# Altium footprint library Train2.PCBLIB: 223 footprints (part 9 of 14)
Each footprint in its own frame and in the unit in brackets; x right, y up, seen from the top. Pads: shape width x height; smd on the part's side, far side on the other; paste and mask are expansions set on the pad; w line width, h text height; cw(c..) or ccw(c..) is an arc to the next point about the centre after c.
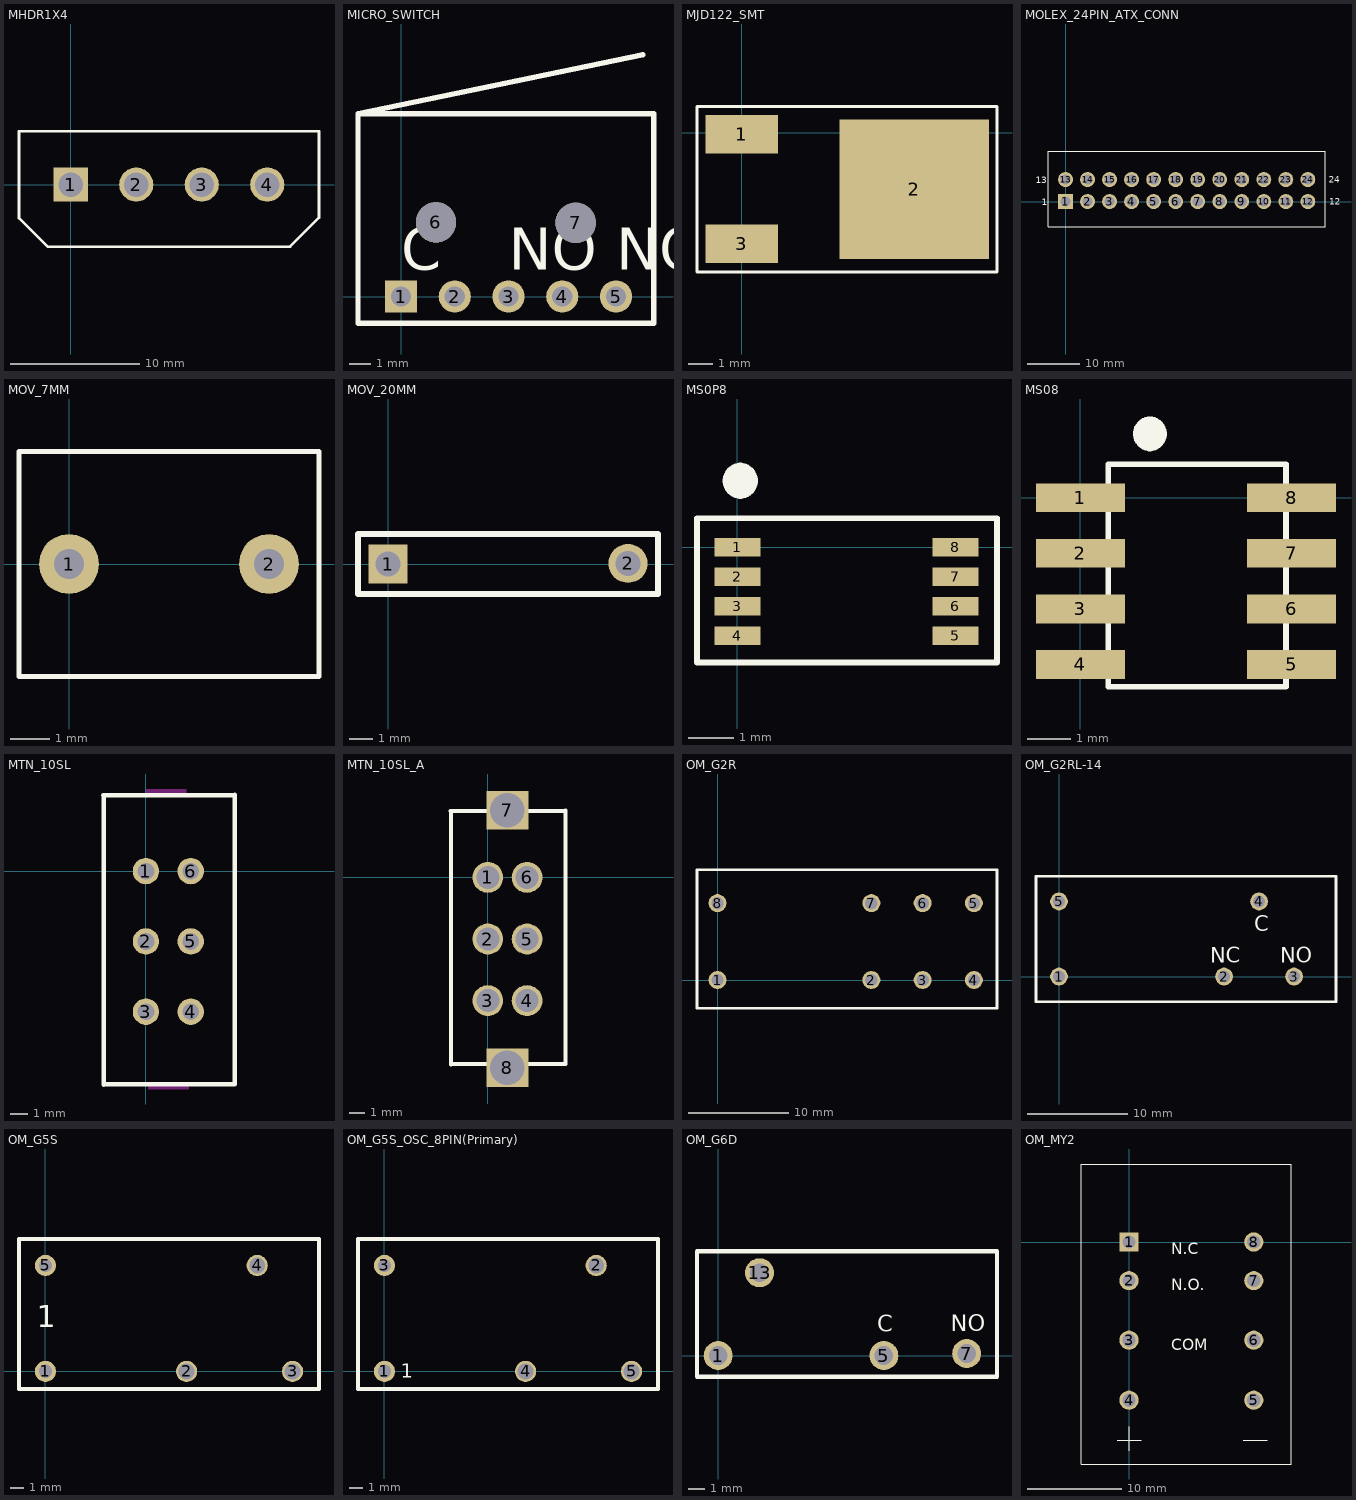
[diagram p8: the footprints below, top view; thin cyan lines are the x and y axes]

## MHDR1X4 [mm] "Connector; Header; 4 Position"
pads (4):
  rect 2.65x2.65 hole 1.9: 1(0,0)
  round 2.65 hole 1.9: 2(5.08,0) 3(10.16,0) 4(15.24,0)
Top Overlay:
  lines w0.2: -4.013,-2.601 -4.013,4.14 19.253,4.14 19.253,-2.565 ; -4.005,-2.599 -1.778,-4.826 17.017,-4.826 ; 17.017,-4.792 19.244,-2.565
3D body "SW3dPS-Molex disk drive power connector.STEP": height 12.19, standoff 0, extent -4,-4.89 19.368,4

## MICRO_SWITCH [mil]
pads (7):
  rect 60x60 hole 38: 1(0,0)
  round 60 hole 38: 2(100,0) 3(200,0) 4(300,0) 5(400,0)
  round 75 hole 75 unplated: 6(65,138) 7(325,137)
Top Overlay:
  lines w10: 450,450 -80,340 ; -80,340 470,340 470,-50 -80,-50 -80,340
  text "C" at 0,50 h78.12
  text "NC" at 400,50 h78.12
  text "NO" at 200,50 h78.12

## MJD122_SMT [mil]
pads (3):
  rect 118x63 smd: 1(0,-2) 3(0,-181)
  rect 244x228 smd: 2(282,-92)
Top Overlay:
  lines w5: -73,-227 -73,43 417,43 417,-227 -73,-227

## MOLEX_24PIN_ATX_CONN [mm] "Connector; Header; 12x2 Position"
pads (24):
  rect 2.85x2.85 hole 1.95: 1(0,0)
  round 2.85 hole 1.95: 2(4.2,0) 3(8.4,0) 4(12.6,0) 5(16.8,0) 6(21,0) 7(25.2,0) 8(29.4,0) 9(33.6,0) 10(37.8,0) 11(42,0) 12(46.2,0) 13(0,4.2) 14(4.2,4.2) 15(8.4,4.2) 16(12.6,4.2) 17(16.8,4.2) 18(21,4.2) 19(25.2,4.2) 20(29.4,4.2) 21(33.6,4.2) 22(37.8,4.2) 23(42,4.2) 24(46.2,4.2)
Top Overlay:
  lines w0.2: -3.3,-4.8 -3.3,9.6 49.504,9.6 49.496,-4.8 -3.3,-4.8
  text "1" at -4.502,-0.726 h1.27
  text "13" at -5.64,3.494 h1.27
  text "12" at 50.3,-0.563 h1.27
  text "24" at 50.22,3.555 h1.27
3D body "4646.stp": height 12.8, standoff -3.5, extent -3.1,-3 49.3,8

## MOV_7MM [mil]
pads (2):
  round 60 hole 30: 1(0,0) 2(200,0)
Top Overlay:
  lines w5: -50,-112.5 -50,112.5 250,112.5 250,-112.5 -50,-112.5

## MOV_20MM [mil]
pads (2):
  rect 65x65 hole 42: 1(0,0)
  round 65 hole 42: 2(400,1)
Top Overlay:
  lines w10: -50,-50 450,-50 450,50 -50,50 -50,-50

## MS0P8 [mil]
pads (8):
  rect 40x16 smd: 1(0,0) 2(0,-25.6) 3(0,-51.4) 4(0,-76.8) 5(189,-76.8) 6(189,-51.4) 7(189,-25.6) 8(189,0)
Top Overlay:
  region: 0,70 -10,60 -10,55 0,45 10,45 15,55 15,65
  lines w5: 2,44.26 ccw(c2,57.5) 2,70.74 ; 3,44.26 cw(c3,57.5) 3,70.74 ; -35,-100 225,-100 225,25 -35,25 -35,-100

## MS08 [mil]
pads (8):
  rect 80x26 smd: 1(0,0) 2(0,-50) 3(0,-100) 4(0,-150) 5(190,-150) 6(190,-100) 7(190,-50) 8(190,0)
Top Overlay:
  region: 60,70 50,60 50,55 60,45 70,45 75,55 75,65
  lines w5: 62,44.26 ccw(c62,57.5) 62,70.74 ; 63,44.26 cw(c63,57.5) 63,70.74 ; 25,-170 185,-170 185,30 25,30 25,-170

## MTN_10SL [mil]
pads (6):
  round 60 hole 38: 1(0,0) 2(0,-160) 3(0,-320) 4(102,-320) 5(102,-160) 6(102,0)
Top Overlay:
  lines w10: -97,173 202,173 ; -96,-486 -96,173 ; -96,-485 202,-485 ; 202,-484 202,174
Keep-Out Layer:
  pour cut-out: 38,175 41,175 45,175 52,175 92,175 92,187 45,187 1,187 1,175
  pour cut-out: 52,-496 55,-496 60,-496 97,-496 97,-484 47,-484 5,-484 5,-496

## MTN_10SL_A [mil]
pads (8):
  round 80 hole 60: 1(0,0) 2(0,-160) 3(0,-320) 4(102,-320) 5(102,-160) 6(102,0)
  rect 110x100 hole 90: 7(51,175) 8(51,-495)
Top Overlay:
  lines w10: -97,173 202,173 ; -96,-486 -96,173 ; -96,-485 202,-485 ; 202,-484 202,174
Keep-Out Layer:
  pour cut-out: 52,-496 55,-496 60,-496 97,-496 97,-484 47,-484 5,-484 5,-496
  pour cut-out: 38,175 41,175 45,175 52,175 92,175 92,187 45,187 1,187 1,175

## OM_G2R [mil]
pads (8):
  round 70 hole 48: 1(0,0) 2(600,0) 3(800,0) 4(1000,0) 5(1000,300) 6(800,300) 7(600,300) 8(0,300)
Top Overlay:
  lines w10: -80,-110 1090,-110 1090,430 -80,430 -80,-110

## OM_G2RL-14 [mil]
pads (5):
  round 70 hole 48: 1(0,0) 2(649.61,0) 3(925.2,0) 4(787.4,295.28) 5(0,295.28)
Top Overlay:
  lines w10: -90.55,-98.43 1090,-98.43 1090,393.7 -90.55,393.7 -90.55,-98.43
  text "NO" at 870.08,55.12 h60.63
  text "NC" at 594.49,55.12 h60.63
  text "C" at 767.72,177.17 h60.63

## OM_G5S [mil]
pads (5):
  round 60 hole 38: 1(0,0) 5(0,300)
  round 60 hole 45: 2(400,0) 3(700,0) 4(600,300)
Top Overlay:
  lines w10: -75,-50 775,-50 775,375 -75,375 -75,-50
  text "1" at -25,125 h62.5

## OM_G5S_OSC_8PIN(Primary) [mil]
pads (5):
  round 60 hole 38: 1(0,0) 3(0,300)
  round 60 hole 45: 2(600,300) 4(400,0) 5(700,0)
Top Overlay:
  lines w10: -75,-50 775,-50 775,375 -75,375 -75,-50
  text "1" at 46,-18 h40

## OM_G6D [mil]
pads (4):
  round 70 hole 45.28: 1(0,0) 5(400,0) 7(600,4.72) 13(100,200)
Top Overlay:
  lines w10: -51.18,-51.18 673.23,-51.18 673.23,251.97 -51.18,251.97 -51.18,-51.18
  text "NO" at 561.02,59.06 h39.37
  text "C" at 383.86,98.43 h39.37

## OM_MY2 [mil]
pads (8):
  rect 80x80 hole 55: 1(0,0)
  round 80 hole 55: 2(0,-161) 3(0,-409) 4(0,-659) 5(520,-659) 6(520,-409) 7(520,-161) 8(520,0)
Top Overlay:
  lines w5: -50,-825 50,-825 ; 0,-870 0,-770 ; 475,-825 575,-825 ; -200,-925 -200,325 675,325 675,-925 -200,-925
  text "COM" at 175,-450 h46.88
  text "N.C" at 175,-50 h46.88
  text "N.O." at 175,-200 h46.88